# EAGLE library part 737-552 (library con-wago_737)
Serie 737, Dreistock-Klemmenleiste für Leiterplatten Lötstifte für Stockwerk 2 um das 1/2 Rastermaß versetzt / Series 737, Triple-deck PCB terminal strip solder pins for deck 2 staggered by half the pin spacing Polzahl / Pole No.: 2 Rastermaß / Pitch: 7.5 mm Bemessungsspannung / Rated Voltage: 630 V Nennstrom / Nominal Current: 21 A Leiterquerschnitt / Conductor Size: 0.08 - 2.5 mm² Anschlusstechnik / Connection Technology: CAGE CLAMP® Lötstiftlänge: / Solder Pin Length: 4 mm Leitereinführung (zur Platine) / Conductor entry angle (to PCB): 45 ° Farbe / Color: grau / gray Stand: 01.01.2012. Die jeweils aktuellen Daten zu diesem Artikel finden Sie in unserem Produktkatalog, den Sie unter www.wago.com einsehen können. As of: 01/01/2012. Please find the newest data for this article in our product catalogue, which can be viewed under www.wago.com.
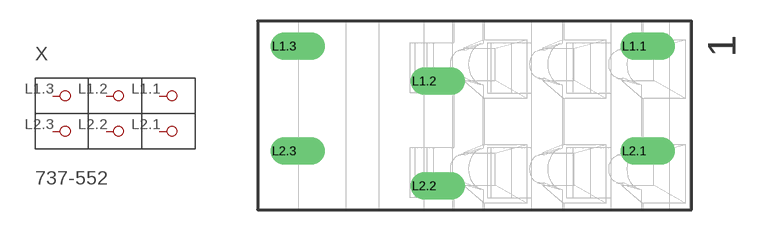
[diagram p23: symbol with the pads of P-737-552; footprint P-737-552]

Designator prefix X

## 737-552  [P-737-552]
L1.1  P1.1
L1.2  P1.2
L1.3  P1.3
L2.1  P2.1
L2.2  P2.2
L2.3  P2.3

## Footprint P-737-552 (pad centres in mm)
drill 1.3 offset: L1.1 11.4,4.95; L1.2 -3.6,2.45; L1.3 -13.6,4.95; L2.1 11.4,-2.55; L2.2 -3.6,-5.05; L2.3 -13.6,-2.55